# Altium schematic symbol library modules.SchLib: 6 symbols
Pins are listed as number, name and electrical type; pins without a type are passive.

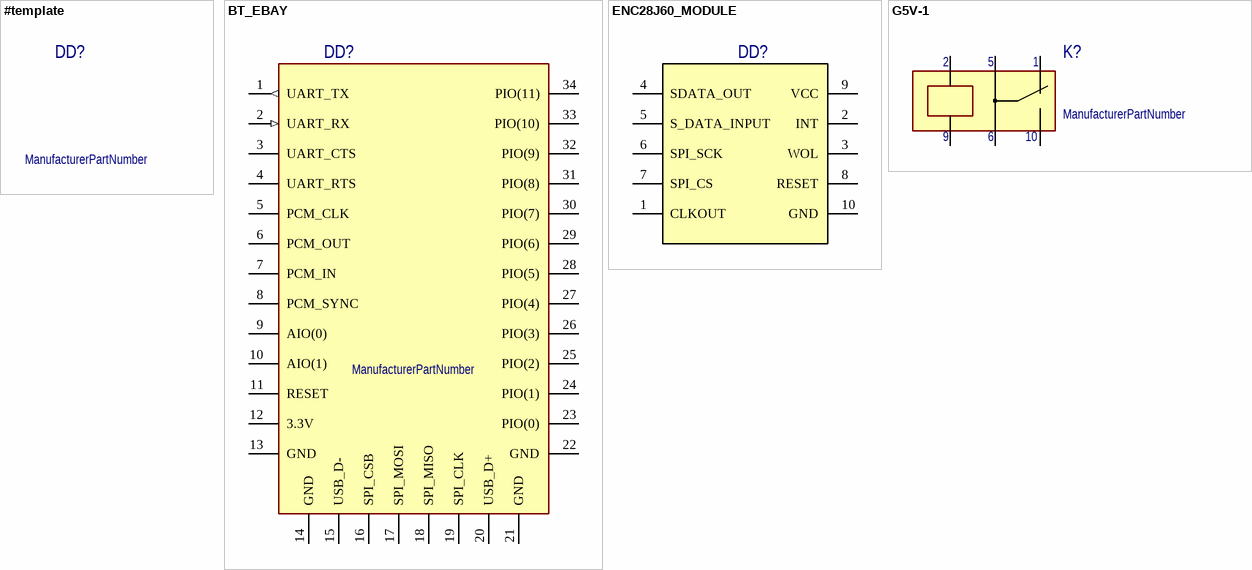
[diagram p0: symbols #template to G5V-1]

## #template
designator DD?
ManufacturerPartNumber: ManufacturerPartNumber

## BT_EBAY
designator DD?
ManufacturerPartNumber: ManufacturerPartNumber
pins: 1 UART_TX (out), 2 UART_RX (in), 3 UART_CTS, 4 UART_RTS, 5 PCM_CLK, 6 PCM_OUT, 7 PCM_IN, 8 PCM_SYNC, 9 AIO(0), 10 AIO(1), 11 RESET, 12 3.3V (power), 13 GND (power), 14 GND (power), 15 USB_D-, 16 SPI_CSB, 17 SPI_MOSI, 18 SPI_MISO, 19 SPI_CLK, 20 USB_D+, 21 GND (power), 22 GND (power), 23 PIO(0), 24 PIO(1), 25 PIO(2), 26 PIO(3), 27 PIO(4), 28 PIO(5), 29 PIO(6), 30 PIO(7), 31 PIO(8), 32 PIO(9), 33 PIO(10), 34 PIO(11)

## ENC28J60_MODULE
designator DD?
ManufacturerPartNumber: ManufacturerPartNumber
pins: 1 CLKOUT, 2 INT, 3 WOL, 4 SDATA_OUT, 5 S_DATA_INPUT, 6 SPI_SCK, 7 SPI_CS, 8 RESET, 9 VCC, 10 GND

## G5V-1
designator K?
ManufacturerPartNumber: ManufacturerPartNumber
pins: 1, 2, 5, 6, 9, 10

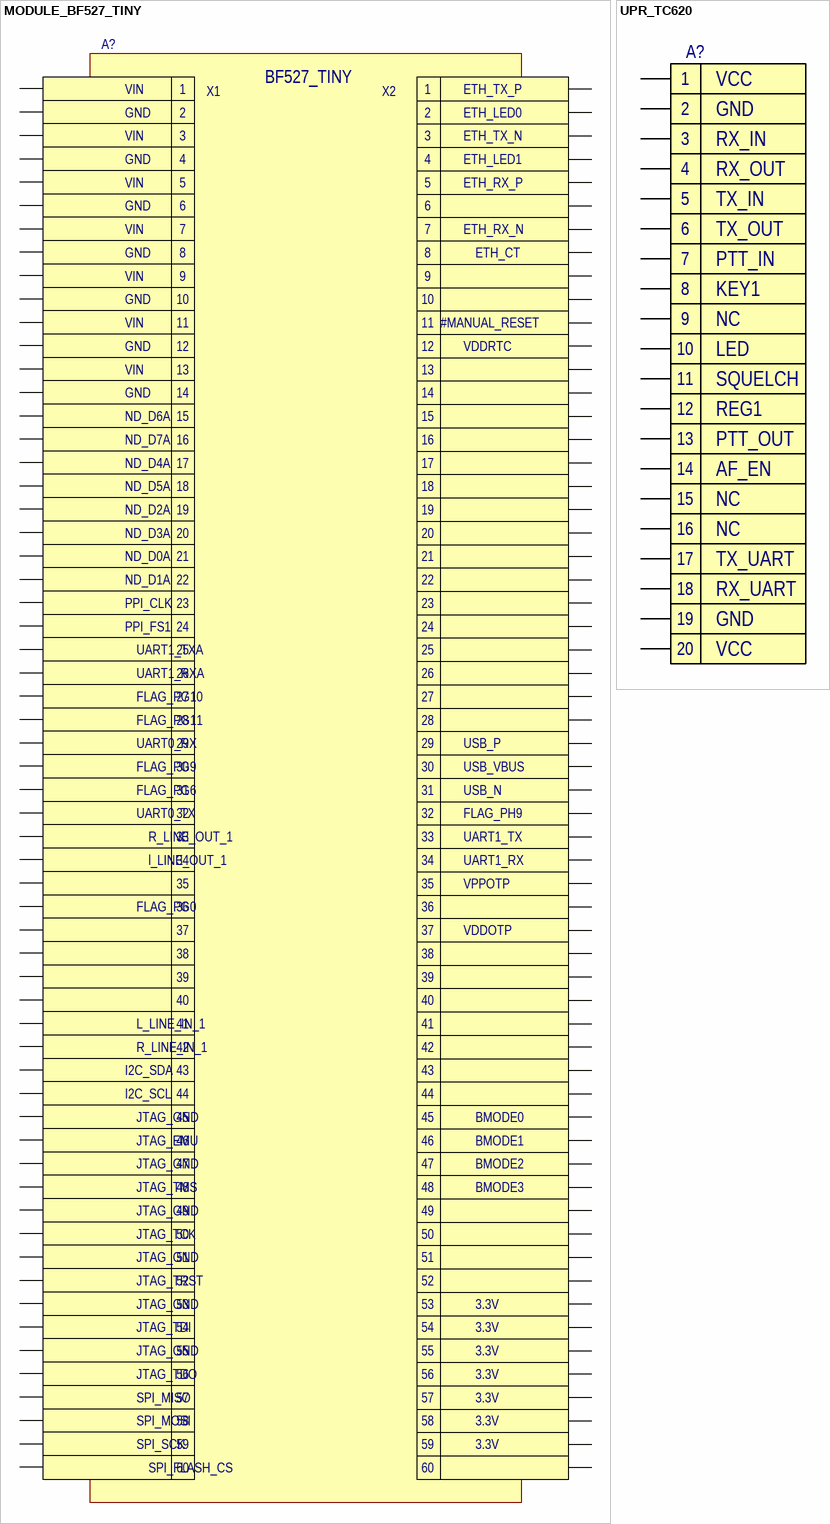
[diagram p1: symbols MODULE_BF527_TINY to UPR_TC620]

## MODULE_BF527_TINY
designator A?
ManufacturerPartNumber: ManufacturerPartNumber
pins: X1_1 1, X1_2 2, X1_3 3, X1_4 4, X1_5 5, X1_6 6, X1_7 7, X1_8 8, X1_9 9, X1_10 10, X1_11 11, X1_12 12, X1_13 SHIELD, X1_14 14, X1_15 15, X1_16 16, X1_17 17, X1_18 18, X1_19 19, X1_20 20, X1_21 21, X1_22 22, X1_23 23, X1_24 24, X1_25 25, X1_26 26, X1_27 27, X1_28 28, X1_29 29, X1_30 30, X1_31 31, X1_32 32, X1_33 33, X1_34 34, X1_35 35, X1_36 36, X1_37 37, X1_38 38, X1_39 39, X1_40 40, X1_41 41, X1_42 42, X1_43 43, X1_44 44, X1_45 45, X1_46 46, X1_47 47, X1_48 48, X1_49 49, X1_50 50, X1_51 51, X1_52 52, X1_53 53, X1_54 54, X1_55 55, X1_56 56, X1_57 57, X1_58 58, X1_59 59, X1_60 60, X2_1, X2_2, X2_3, X2_4, X2_5, X2_6, X2_7, X2_8, X2_9, X2_10, X2_11, X2_12, X2_13, X2_14, X2_15, X2_16, X2_17, X2_18, X2_19, X2_20, X2_21, X2_22, X2_23, X2_24, X2_25, X2_26, X2_27, X2_28, X2_29, X2_30, X2_31, X2_32, X2_33, X2_34, X2_35, X2_36, X2_37, X2_38, X2_39, X2_40, X2_41, X2_42, X2_43, X2_44, X2_45, X2_46, X2_47, X2_48, X2_49, X2_50, X2_51, X2_52, X2_53, X2_54, X2_55, X2_56, X2_57, X2_58, X2_59, X2_60
text: VIN; BF527_TINY; ETH_TX_P; X1; X2; GND; ETH_LED0; ETH_TX_N; ETH_LED1; ETH_RX_P; ETH_RX_N; ETH_CT; #MANUAL_RESET; VDDRTC; 13; ND_D6A; ND_D7A; ND_D4A; ND_D5A; ND_D2A; ND_D3A; ND_D0A; ND_D1A; PPI_CLK; PPI_FS1; UART1_TXA; UART1_RXA; FLAG_PG10; FLAG_PG11; UART0_RX; USB_P; FLAG_PG9; USB_VBUS; FLAG_PG6; USB_N; UART0_TX; FLAG_PH9; R_LINE_OUT_1; UART1_TX; l_LINE_OUT_1; UART1_RX; VPPOTP; FLAG_PG0; VDDOTP; L_LINE_IN_1; R_LINE_IN_1; I2C_SDA; I2C_SCL; JTAG_GND; BMODE0; JTAG_EMU; BMODE1; BMODE2; JTAG_TMS; BMODE3; JTAG_TCK; JTAG_TRST; 3.3V; JTAG_TDI; JTAG_TDO; SPI_MISO; SPI_MOSI; SPI_SCK; SPI_FLASH_CS

## UPR_TC620
designator A?  ManufacturerPartNumber: УПР В
pins: 1, 2, 3, 4, 5, 6, 7, 8, 9, 10, 11, 12, 13 SHIELD, 14, 15, 16, 17, 18, 19, 20
text: VCC; GND; RX_IN; RX_OUT; TX_IN; TX_OUT; PTT_IN; KEY1; NC; LED; SQUELCH; REG1; PTT_OUT; AF_EN; TX_UART; RX_UART